# EAGLE library part UNO_SHIELD (library Shohei)
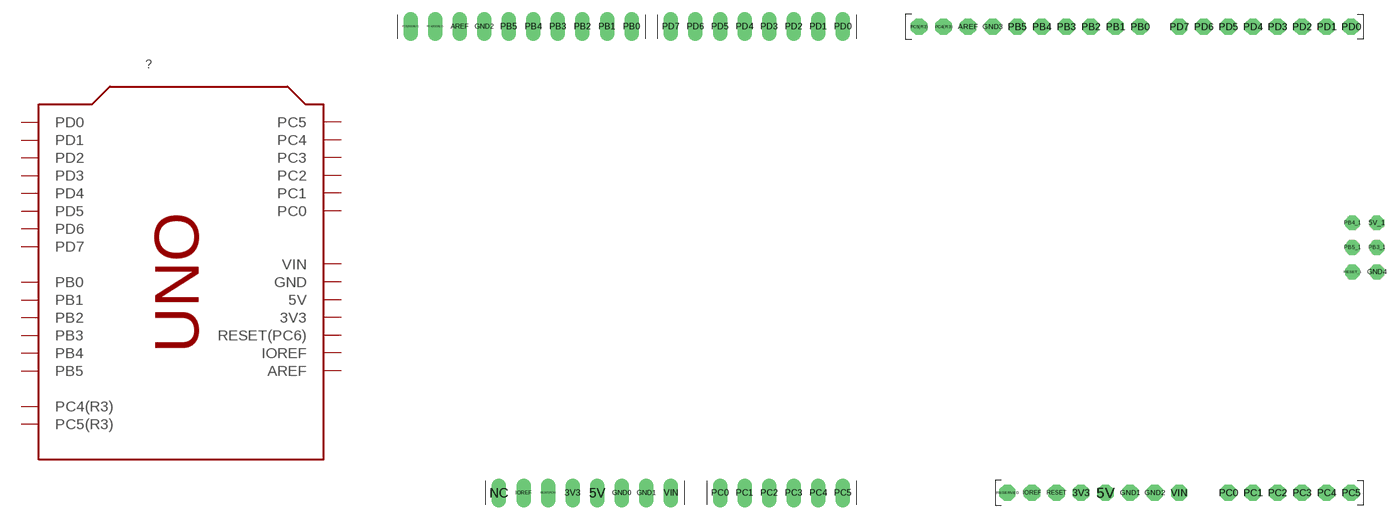
[diagram p6: symbol with the pads of ARDUINO_UNO_SHIELD; footprints ARDUINO_UNO_SHIELD, ARDUINO_UNO]

Designator prefix ?

## UNO_SHIELD  [ARDUINO_UNO_SHIELD]
3V3  3V3
5V  5V
AREF  AREF
GND0  GND
GND1  GND
GND2  GND
IOREF  IOREF
PB0  PB0
PB1  PB1
PB2  PB2
PB3  PB3
PB4  PB4
PB5  PB5
PC0  PC0
PC1  PC1
PC2  PC2
PC3  PC3
PC4  PC4
PC4(R3ONLY)  PC4(R3)
PC5  PC5
PC5(R3ONLY)  PC5(R3)
PD0  PD0
PD1  PD1
PD2  PD2
PD3  PD3
PD4  PD4
PD5  PD5
PD6  PD6
PD7  PD7
RESET(PC6)  RESET(PC6)
VIN  VIN

## UNO_SHIELDUNO  [ARDUINO_UNO]
3V3  3V3
5V  5V
5V_1  5V
AREF  AREF
GND1  GND
GND2  GND
GND3  GND
GND4  GND
IOREF  IOREF
PB0  PB0
PB1  PB1
PB2  PB2
PB3  PB3
PB3_1  PB3
PB4  PB4
PB4_1  PB4
PB5  PB5
PB5_1  PB5
PC0  PC0
PC1  PC1
PC2  PC2
PC3  PC3
PC4  PC4
PC4(R3)  PC4(R3)
PC5  PC5
PC5(R3)  PC5(R3)
PD0  PD0
PD1  PD1
PD2  PD2
PD3  PD3
PD4  PD4
PD5  PD5
PD6  PD6
PD7  PD7
RESET  RESET(PC6)
RESET_1  RESET(PC6)
VIN  VIN

## Footprint ARDUINO_UNO_SHIELD (pad centres in mm)
drill 1 long: 3V3 35.56,2.54; 5V 38.1,2.54; AREF 23.876,50.8; GND0 40.64,2.54; GND1 43.18,2.54; GND2 26.416,50.8; IOREF 30.48,2.54; NC 27.94,2.54; PB0 41.656,50.8; PB1 39.116,50.8; PB2 36.576,50.8; PB3 34.036,50.8; PB4 31.496,50.8; PB5 28.956,50.8; PC0 50.8,2.54; PC1 53.34,2.54; PC2 55.88,2.54; PC3 58.42,2.54; PC4 60.96,2.54; PC4(R3ONLY) 21.336,50.8; PC5 63.5,2.54; PC5(R3ONLY) 18.796,50.8; PD0 63.5,50.8; PD1 60.96,50.8; PD2 58.42,50.8; PD3 55.88,50.8; PD4 53.34,50.8; PD5 50.8,50.8; PD6 48.26,50.8; PD7 45.72,50.8; RESET(PC6) 33.02,2.54; VIN 45.72,2.54

## Footprint ARDUINO_UNO (pad centres in mm)
drill 1 pad 1.676 octagon: 3V3 35.56,2.54; 5V 38.1,2.54; AREF 23.876,50.8; GND1 40.64,2.54; GND2 43.18,2.54; GND3 26.416,50.8; IOREF 30.48,2.54; PB0 41.656,50.8; PB1 39.116,50.8; PB2 36.576,50.8; PB3 34.036,50.8; PB4 31.496,50.8; PB5 28.956,50.8; PC0 50.8,2.54; PC1 53.34,2.54; PC2 55.88,2.54; PC3 58.42,2.54; PC4 60.96,2.54; PC4(R3) 21.336,50.8; PC5 63.5,2.54; PC5(R3) 18.796,50.8; PD0 63.5,50.8; PD1 60.96,50.8; PD2 58.42,50.8; PD3 55.88,50.8; PD4 53.34,50.8; PD5 50.8,50.8; PD6 48.26,50.8; PD7 45.72,50.8; RESERVED 27.94,2.54; RESET 33.02,2.54; VIN 45.72,2.54
drill 1 octagon: 5V_1 66.167,30.48; GND4 66.167,25.4; PB3_1 66.167,27.94; PB4_1 63.627,30.48; PB5_1 63.627,27.94; RESET_1 63.627,25.4